# Altium schematic symbol library LTV-846S.Schlib: 1 symbol
Pins are listed as number, name and electrical type; pins without a type are passive.

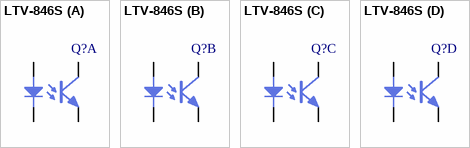
[diagram p0: symbol LTV-846S]

## LTV-846S
designator Q?  (value not drawn)
part A pins: 1 A, 2 C, 15 E, 16 C
part B pins: 3 A, 4 C, 13 E, 14 C
part C pins: 5 A, 6 C, 11 E, 12 C
part D pins: 7 A, 8 C, 9 E, 10 C